# EAGLE library part NELTRON-7810-XPXC (library con-rj45)
Mod. Jack, Right Angle, 8 posiotion, 8 contatcs RJ45 Source: GLX-S-88M.pdf
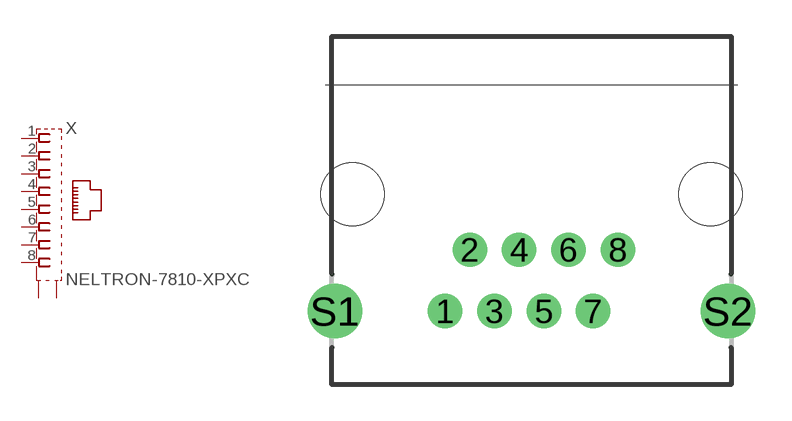
[diagram p1: symbol with the pads of NELTRON-7810-XPXC-FOOTPRINT; footprint NELTRON-7810-XPXC-FOOTPRINT]

Designator prefix X

## NELTRON-7810-XPXC  [NELTRON-7810-XPXC-FOOTPRINT]
1  1  pas
2  2  pas
3  3  pas
4  4  pas
5  5  pas
6  6  pas
7  7  pas
8  8  pas
S1  S1  pas
S2  S2  pas

## Footprint NELTRON-7810-XPXC-FOOTPRINT (pad centres in mm)
Mod. Jack, Right Angle, 8 posiotion, 8 contatcs RJ45
drill 0.9 pad 1.422: 1 -3.57,-4.84; 2 -2.55,-2.3; 3 -1.53,-4.84; 4 -0.51,-2.3; 5 0.51,-4.84; 6 1.53,-2.3; 7 2.55,-4.84; 8 3.57,-2.3
drill 1.5 pad 2.184: S1 -8.125,-4.84; S2 8.125,-4.84
hole 2.6 at -7.4,0
hole 2.6 at 7.4,0